# EAGLE library part SN74LVC3G34 (library texas-instruments)
Triple Buffer Gate
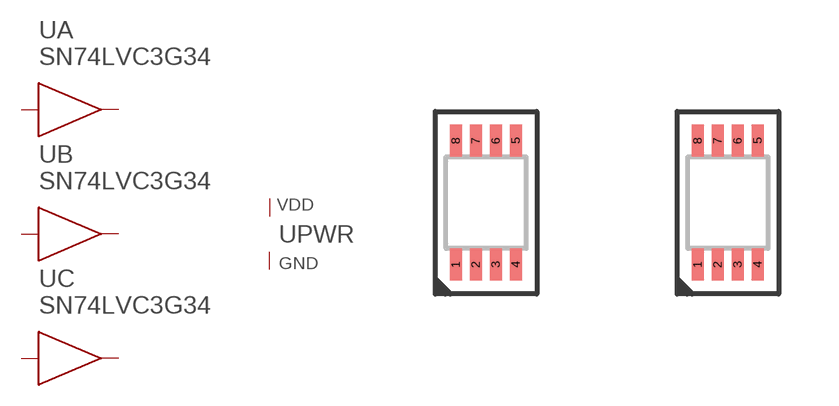
[diagram p21: symbol with the pads of R-PDSO-G8; footprints R-PDSO-G8, R-PDSO-G8-DCU]

Designator prefix U; gates A=LOGIC-BUFFER B=LOGIC-BUFFER C=LOGIC-BUFFER PWR=LOGIC-PWR

## SN74LVC3G34  [R-PDSO-G8]
1  A:A  in
2  C:Y  out
3  B:A  in
4  PWR:GND
5  B:Y  out
6  C:A  in
7  A:Y  out
8  PWR:VDD

## SN74LVC3G34DCU  [R-PDSO-G8-DCU]
Pads as for R-PDSO-G8

## Footprint R-PDSO-G8 (pad centres in mm)
smd 0.3 x 0.8: 1 -0.75,-1.55; 2 -0.25,-1.55; 3 0.25,-1.55; 4 0.75,-1.55; 5 0.75,1.55; 6 0.25,1.55; 7 -0.25,1.55; 8 -0.75,1.55

## Footprint R-PDSO-G8-DCU (pad centres in mm)
smd 0.3 x 0.8: 1 -0.75,-1.55; 2 -0.25,-1.55; 3 0.25,-1.55; 4 0.75,-1.55; 5 0.75,1.55; 6 0.25,1.55; 7 -0.25,1.55; 8 -0.75,1.55